# Altium footprint library 无刷驱动-CYT4BB7-V1.0.1.PcbLib: 34 footprints (part 3 of 3)
Each footprint in its own frame and in the unit in brackets; x right, y up, seen from the top. Pads: shape width x height; smd on the part's side, far side on the other; paste and mask are expansions set on the pad; w line width, h text height; cw(c..) or ccw(c..) is an arc to the next point about the centre after c.
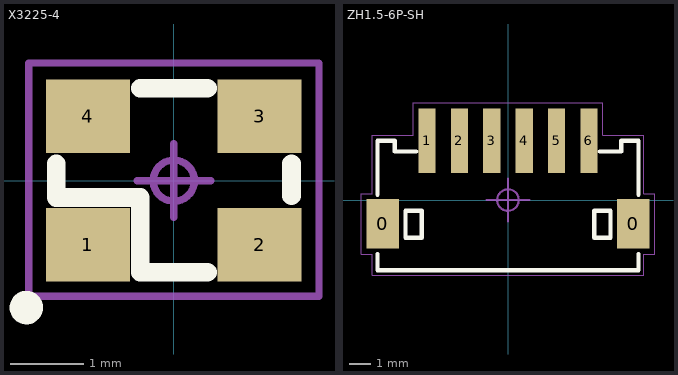
[diagram p2: the footprints below, top view; thin cyan lines are the x and y axes]

## X3225-4 [mil] "3225 4脚 晶振"
height 62.99
pads (4):
  rect 45x39.37 smd: 1(-46,-34.4) 2(46,-34.41) 3(46,34.41) 4(-46,34.41)
Top Overlay:
  circle w10: c-79,-68 r3.94
  lines w10: -63,9 -63,-9 -18,-9 -18,-49 18,-49 ; -18,49.43 18,49.43 ; 63,-8 63,9
Top Designator:
  text ".Designator" at -92.69,-14.88 h39.37
Top Component Outline:
  lines w3.94: -77.76,-62 -77.76,63 77.76,63 77.76,-62 -77.76,-62
Top Component Center:
  circle w3.94: c0,0 r11.02
  lines w3.94: -19.69,0 19.68,0 ; 0,-19.68 0,19.69
3D body "XTAL-3225-4.step": height 24.02, standoff 0, extent -62.99,-49 63,49.43

## ZH1.5-6P-SH [mm] "ZH1.5-6P 贴片 卧式"
height 1.6
pads (8):
  rect 1.5x2.3 smd: 0(-5.8,-1.1) 0(5.8,-1.1)
  rect 0.8x3 smd: 1(-3.75,2.75) 2(-2.25,2.75) 3(-0.75,2.75) 4(0.75,2.75) 5(2.25,2.75) 6(3.75,2.75)
Top Overlay:
  lines w0.2: -6.05,-2.5 -6.05,-3.25 6.05,-3.25 6.05,-2.5 ; -6.05,0.25 -6.05,2.75 -5.25,2.75 -5.25,2.25 -4.25,2.25 ; 4.25,2.25 5.25,2.25 5.25,2.75 6.05,2.75 6.05,0.25 ; -4.75,-1.75 -4,-1.75 -4,-0.5 -4.75,-0.5 -4.75,-1.75 ; 4,-1.75 4.75,-1.75 4.75,-0.5 4,-0.5 4,-1.75
Top Designator:
  text ".Designator" at -2.25,-0.226 h1
Top Component Outline:
  lines w0.05: -6.8,-2.5 -6.29,-2.5 -6.29,-3.475 6.29,-3.475 6.29,-2.5 6.8,-2.5 6.8,0.3 6.29,0.3 6.29,0.403 6.29,3 4.4,3 4.4,4.5 -4.4,4.5 -4.4,3 -6.29,3 -6.29,0.403 -6.29,0.3 -6.8,0.3 -6.8,-2.5
Top Component Center:
  circle w0.1: c0,0 r0.5
  lines w0.1: -1,0 1,0 ; 0,-1 0,1
3D body "User Library-A1501WR-S-XP-6P.step": height 3.9, standoff -0.01, extent -6.29,-3.25 6.29,3.459